# Altium footprint library NANO_HEADER.PcbLib: 1 footprints
Each footprint in its own frame and in the unit in brackets; x right, y up, seen from the top. Pads: shape width x height; smd on the part's side, far side on the other; paste and mask are expansions set on the pad; w line width, h text height; cw(c..) or ccw(c..) is an arc to the next point about the centre after c.
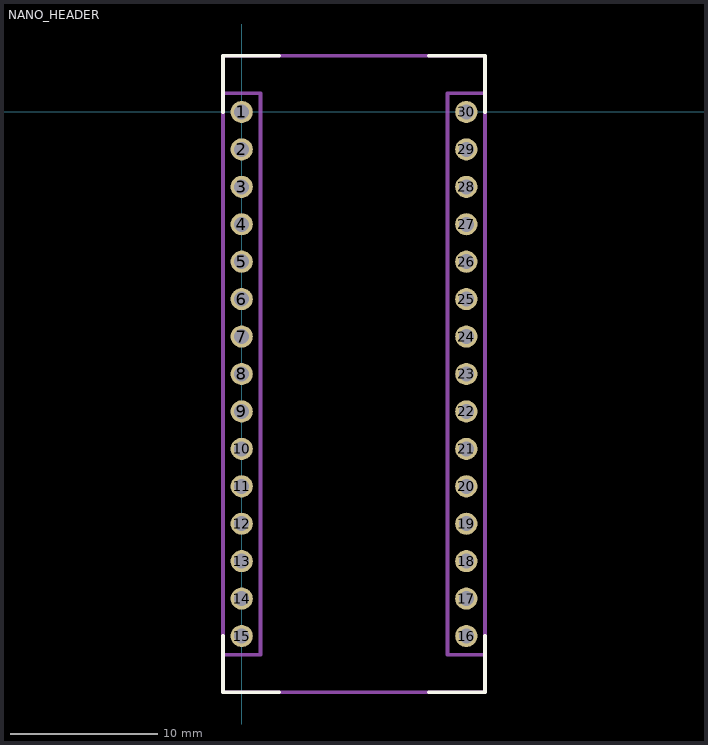
[diagram p0: the footprint, top view; thin cyan lines are the x and y axes]

## NANO_HEADER [mm] "Arduino / Nucleo \"Nano\" Headers"
height 20
pads (30):
  round 1.5 hole 1.02: 1(0,0) 2(0,-2.54) 3(0,-5.08) 4(0,-7.62) 5(0,-10.16) 6(0,-12.7) 7(0,-15.24) 8(0,-17.78) 9(0,-20.32) 10(0,-22.86) 11(0,-25.4) 12(0,-27.94) 13(0,-30.48) 14(0,-33.02) 15(0,-35.56) 16(15.24,-35.56) 17(15.24,-33.02) 18(15.24,-30.48) 19(15.24,-27.94) 20(15.24,-25.4) 21(15.24,-22.86) 22(15.24,-20.32) 23(15.24,-17.78) 24(15.24,-15.24) 25(15.24,-12.7) 26(15.24,-10.16) 27(15.24,-7.62) 28(15.24,-5.08) 29(15.24,-2.54) 30(15.24,0)
Top Overlay:
  lines w0.254: -1.27,-35.56 -1.27,-39.37 2.54,-39.37 ; -1.27,0 -1.27,3.81 2.54,3.81 ; 12.7,-39.37 16.51,-39.37 16.51,-35.56 ; 12.7,3.81 16.51,3.81 16.51,0
Top Courtyards/Models:
  lines w0.254: -1.27,-39.37 -1.27,3.81 16.51,3.81 16.51,-39.37 ; -1.27,-39.37 -1.27,-39.37 ; -1.27,-39.37 16.51,-39.37 ; 16.51,-39.37 16.51,-39.37 ; -1.27,-36.83 -1.27,1.27 1.27,1.27 1.27,-36.83 -1.27,-36.83 ; 13.97,-36.83 13.97,1.27 16.51,1.27 16.51,-36.83 13.97,-36.83
3D body: height 15, standoff 8.5, extent -1.27,-39.37 16.51,3.81
3D body: height 8.5, standoff 0, extent 13.97,-36.83 16.51,1.27
3D body: height 8.5, standoff 0, extent -1.27,-36.83 1.27,1.27